# EAGLE library part LNA (library AP_LNA)
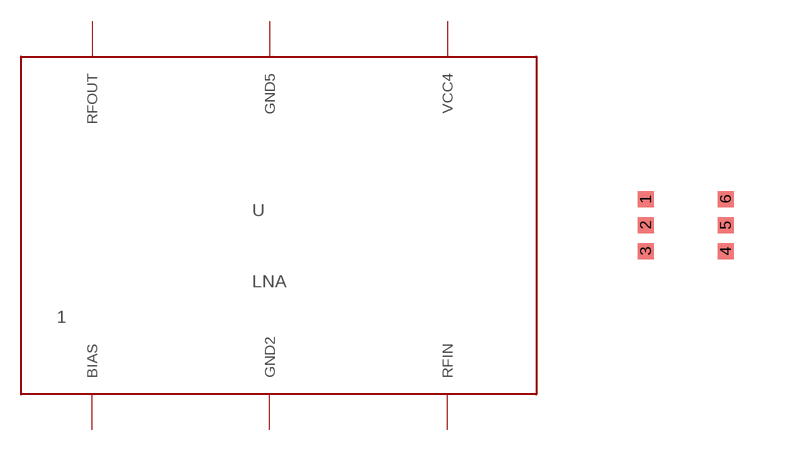
[diagram p0: symbol with the pads of LNA; footprint LNA]

Designator prefix -

## LNA  [LNA]

## LNALNA_NEW  [LNA]
1  BIAS
2  GND2
3  RFIN
4  VCC4
5  GND5
6  RFOUT

## Footprint LNA (pad centres in mm)
smd 0.4 x 0.4: 1 -1,0.65; 2 -1,0; 3 -1,-0.65; 4 1,-0.65; 5 1,0; 6 1,0.65